# Altium footprint library IC_Power.PcbLib: 13 footprints
Each footprint in its own frame and in the unit in brackets; x right, y up, seen from the top. Pads: shape width x height; smd on the part's side, far side on the other; paste and mask are expansions set on the pad; w line width, h text height; cw(c..) or ccw(c..) is an arc to the next point about the centre after c.
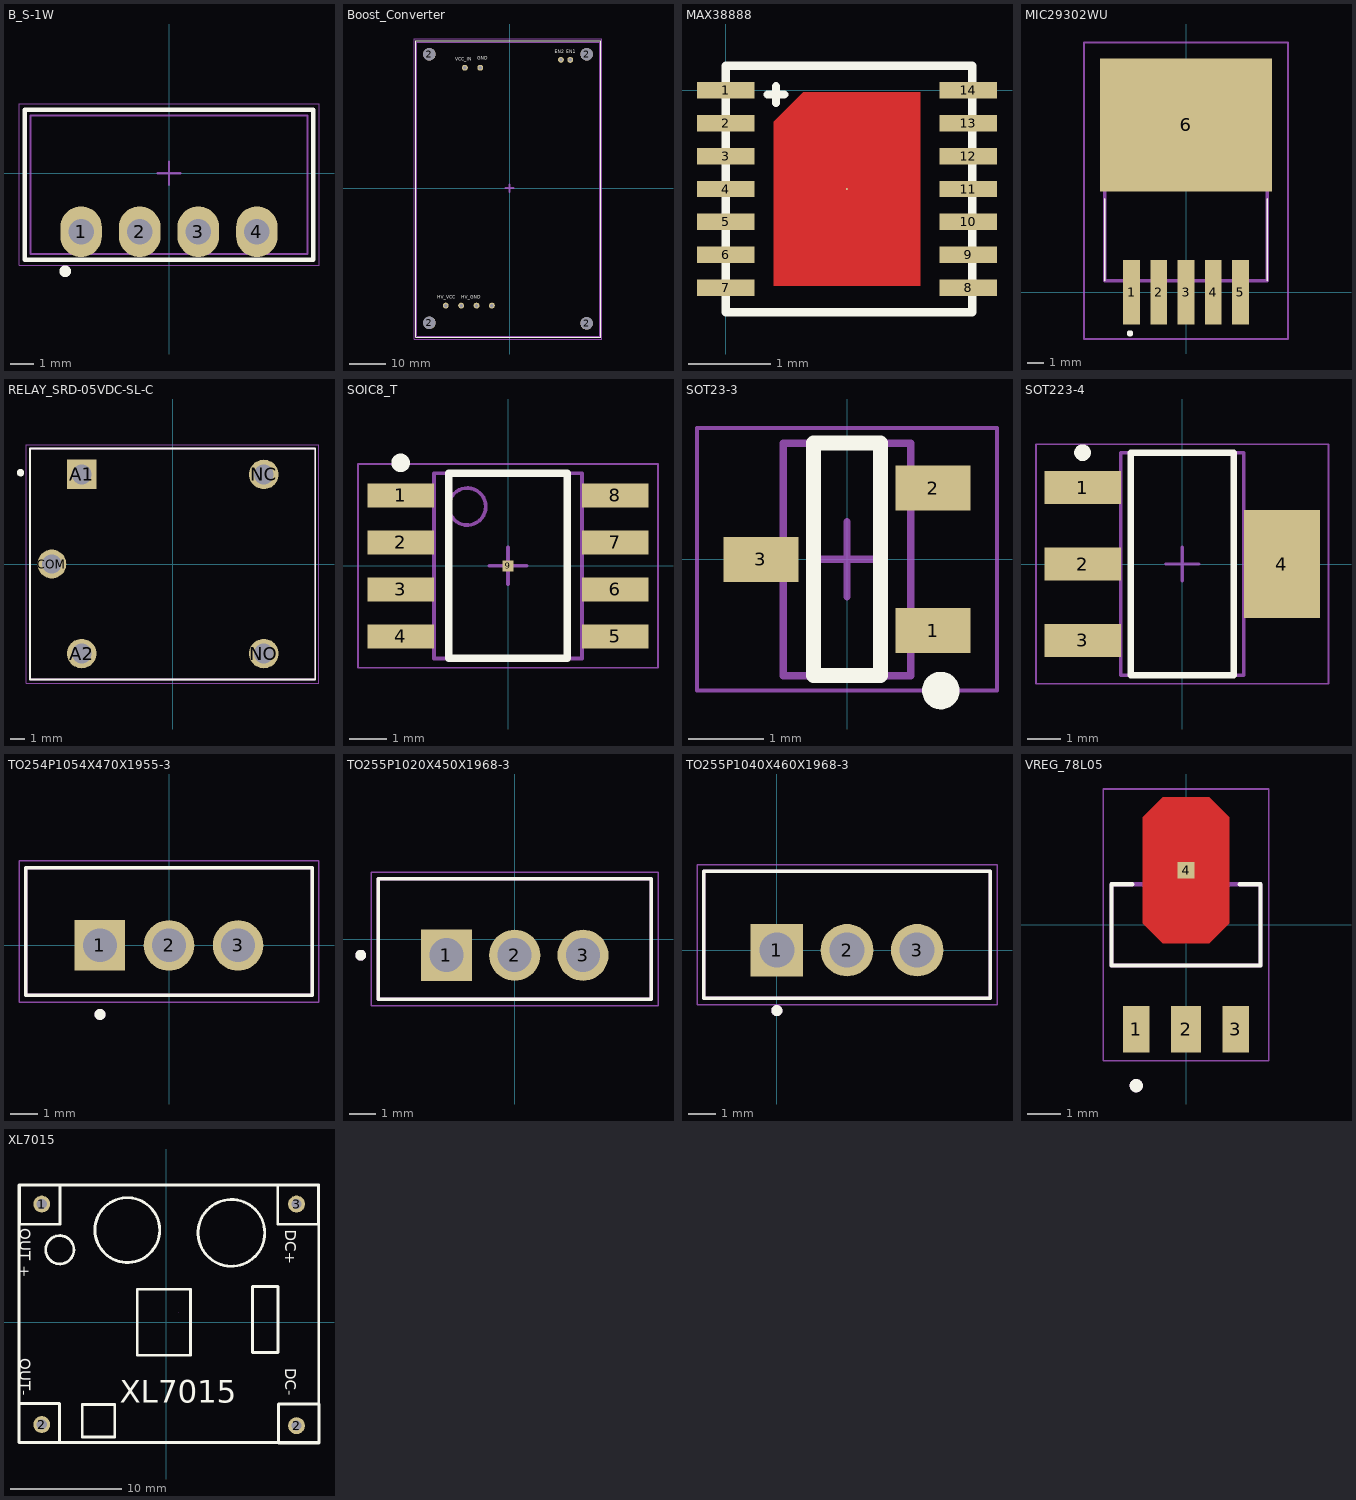
[diagram p0: the footprints below, top view; thin cyan lines are the x and y axes]

## B_S-1W [mm] "SOT23, 6-Leads, Body 2.90x2.80mm, Pitch 0.95mm, IPC Medium Density"
height 1.25
pads (4):
  oval 1.8x2.2 hole 1.1: 1(-3.81,-2.54) 2(-1.27,-2.54) 3(1.27,-2.54) 4(3.81,-2.54)
Top Overlay:
  circle w0.25: c-4.5,-4.25 r0.125
  lines w0.2: -6.25,-3.75 -6.25,2.75 6.25,2.75 6.25,-3.75 -6.25,-3.75
Mechanical 13:
  lines w0.1: -6,-3.5 6,-3.5 6,2.5 -6,2.5 -6,-3.5
Mechanical 15:
  lines w0.05: -6.5,-4 6.5,-4 6.5,3 -6.5,3 -6.5,-4
  lines w0.1: -0.5,0 0.5,0 ; 0,-0.5 0,0.5
3D body: height 10.16, standoff 0.2, extent -6,-3.5 6,2.5

## Boost_Converter [mm]
pads (12):
  round 1.6 hole 0.9: 1(-12.192,32.766) 2(-13.199,-32.004) 2(-8.999,-32.004) 2(-7.992,32.766) 3(16.51,34.925) 4(13.97,34.925) 5(-17.399,-32.004) 6(-4.826,-32.004)
  round 3.4 hole 3.4: 2(-21.844,-36.703) 2(-21.844,36.449) 2(20.955,-36.83) 2(20.955,36.449)
Top Overlay:
  lines w0.254: -25.625,-40.575 24.825,-40.575 24.825,40.125 -25.625,40.125 -25.625,-40.575
  text "VCC_IN" at -14.859,34.29 h1.52
  text "GND" at -8.763,34.544 h1.52
  text "EN1" at 15.494,36.322 h1.52
  text "EN2" at 12.319,36.322 h1.52
  text "HV_VCC" at -19.685,-30.48 h1.52
  text "HV_GND" at -13.208,-30.48 h1.52
Mechanical 13:
  lines w0.1: -25.273,-40.386 -25.273,39.714 24.527,39.714 24.527,-40.386 -25.273,-40.386
Mechanical 15:
  lines w0.254: -26,-41.1 25.125,-41.1 25.125,40.6 -26,40.6 -26,-41.1
  lines w0.5: -1.143,0 1.057,0 ; 0,-1.143 0,1.057
3D body: height 0.25, standoff 0, extent -25.273,-40.386 24.384,39.624

## MAX38888 [mm] "TDFN-EP Package 14 pins"
pads (15):
  rect 0.7x0.2 smd mask+0.05: 1(0,0) 2(0,-0.4) 3(0,-0.8) 4(0,-1.2) 5(0,-1.6) 6(0,-2) 7(0,-2.4) 8(2.95,-2.4) 9(2.95,-2) 10(2.95,-1.6) 11(2.95,-1.2) 12(2.95,-0.8) 13(2.95,-0.4) 14(2.95,0)
  round 0.025 smd: 15(1.473,-1.2)
Top Layer:
  region: 0.94,-0.025 0.583,-0.382 0.583,-2.375 2.363,-2.375 2.363,-0.025
Top Overlay:
  lines w0.1: 0.508,-0.051 0.711,-0.051 ; 0.61,-0.152 0.61,0.051 ; 0,-2.7 0,0.3 3,0.3 3,-2.7 0,-2.7
3D body: height 0.25, standoff 0, extent 0,-2.7 3,0.3

## MIC29302WU [mm]
pads (6):
  rect 1.041x4.039 smd: 1(-3.404,0) 2(-1.702,0) 3(0,0) 4(1.702,0) 5(3.404,0)
  rect 10.744x8.306 smd: 6(0,10.452)
Top Overlay:
  lines w0.1: -5.08,0.717 -5.08,5.826 ; 5.08,0.726 5.08,5.826
  lines w0.2: -3.6,-2.574 ccw(c-3.5,-2.574) -3.4,-2.574 ccw(c-3.5,-2.574) -3.6,-2.574
Mechanical 13:
  lines w0.1: -6.372,-2.921 6.372,-2.921 6.372,15.605 -6.372,15.605 -6.372,-2.921
  lines w0.2: -5.08,0.717 5.08,0.717 5.08,9.735 -5.08,9.735 -5.08,0.717
3D body "step_temp.STEP": height 10.72, standoff -4.19, extent -5.207,-2.286 4.953,2.794

## RELAY_SRD-05VDC-SL-C [mm]
pads (5):
  rect 1.98x1.98 / inner round 1.98 / far side rect 1.98x1.98 hole 1.32: A1(-6.1,6)
  round 1.98 hole 1.32: A2(-6.1,-6) NC(6.1,6) NO(6.1,-6)
  round 1.935 hole 1.29: COM(-8.1,0)
Top Overlay:
  circle w0.3: c-10.2,6.119 r0.1
  lines w0.127: -9.55,-7.75 -9.55,7.75 9.55,7.75 9.55,-7.75 -9.55,-7.75
Mechanical 13:
  lines w0.127: -9.55,-7.75 -9.55,7.75 9.55,7.75 9.55,-7.75 -9.55,-7.75
Mechanical 15:
  lines w0.05: -9.8,-8 -9.8,8 9.8,8 9.8,-8 -9.8,-8
3D body "step_temp.STEP": height 15.8, standoff -3, extent -9.6,-7.8 9.6,7.8

## SOIC8_T [mm] "SOIC, 8-Leads, Body 4.90x3.90mm, Pitch 1.27mm, Thermal Pad 3.10x2.40mm, IPC Medium Density"
height 1.8
pads (9):
  rect 1.8x0.65 smd: 1(-2.9,1.905) 2(-2.9,0.635) 3(-2.9,-0.635) 4(-2.9,-1.905) 5(2.9,-1.905) 6(2.9,-0.635) 7(2.9,0.635) 8(2.9,1.905)
  rect 0.3x0.3 smd: 9(0,0)
Top Overlay:
  circle w0.25: c-2.9,2.78 r0.125
  lines w0.2: -1.6,-2.5 -1.6,2.5 1.6,2.5 1.6,-2.5 -1.6,-2.5
Mechanical 13:
  circle w0.1: c-1.1,1.6 r0.5
  lines w0.1: -2,-2.5 -2,2.5 2,2.5 2,-2.5 -2,-2.5
Mechanical 15:
  lines w0.05: -4.05,-2.75 -4.05,2.75 4.05,2.75 4.05,-2.75 -4.05,-2.75
  lines w0.1: -0.5,0 0.5,0 ; 0,-0.5 0,0.5
3D body: height 1.8, standoff 0.1, extent -2,-2.5 2,2.5

## SOT23-3 [mm] "SOT23, 5-Leads, Body 2,95x2,45mm, Pitch 0,95mm, IPC Medium Density"
height 1.3
pads (3):
  rect 1x0.6 smd: 1(1.15,-0.95) 2(1.15,0.95) 3(-1.15,0)
Top Overlay:
  circle w0.25: c1.25,-1.75 r0.125
  lines w0.2: -0.45,-1.55 -0.45,1.55 0.45,1.55 0.45,-1.55 -0.45,-1.55
Mechanical 13:
  lines w0.1: -0.85,-1.55 0.85,-1.55 0.85,1.55 -0.85,1.55 -0.85,-1.55
Mechanical 15:
  lines w0.05: -2,-1.75 2,-1.75 2,1.75 -2,1.75 -2,-1.75
  lines w0.1: -0.5,0 0.5,0 ; 0,-0.5 0,0.5
3D body: height 1.3, standoff 0.05, extent -0.85,-1.55 0.85,1.55

## SOT223-4 [mm] "SOT223, 4-Leads, Body 6,50x7,00mm (avg), Pitch 2,30mm, IPC Medium Density"
height 1.8
pads (4):
  rect 2.3x1 smd: 1(-3,2.3) 2(-3,0) 3(-3,-2.3)
  rect 2.3x3.25 smd: 4(3,0)
Top Overlay:
  circle w0.25: c-3,3.35 r0.125
  lines w0.2: -1.55,-3.35 1.55,-3.35 1.55,3.35 -1.55,3.35 -1.55,-3.35
Mechanical 13:
  lines w0.1: -1.85,-3.35 1.85,-3.35 1.85,3.35 -1.85,3.35 -1.85,-3.35
Mechanical 15:
  lines w0.05: -4.4,-3.6 4.4,-3.6 4.4,3.6 -4.4,3.6 -4.4,-3.6
  lines w0.1: -0.5,0 0.5,0 ; 0,-0.5 0,0.5
3D body: height 1.8, standoff 0.02, extent -1.85,-3.35 1.85,3.35

## TO254P1054X470X1955-3 [mm]
pads (3):
  rect 1.86x1.86 / inner round 1.86 / far side rect 1.86x1.86 hole 1.24: 1(-2.54,0)
  round 1.86 hole 1.24: 2(0,0) 3(2.54,0)
Top Overlay:
  circle w0.2: c-2.54,-2.54 r0.1
  lines w0.127: -5.27,-1.84 5.27,-1.84 5.27,2.86 -5.27,2.86 -5.27,-1.84
Mechanical 13:
  circle w0.2: c-2.54,-2.54 r0.1
  lines w0.127: -5.27,-1.84 5.27,-1.84 5.27,2.86 -5.27,2.86 -5.27,-1.84
Mechanical 15:
  lines w0.05: -5.52,-2.09 5.52,-2.09 5.52,3.11 -5.52,3.11 -5.52,-2.09
3D body "step_temp.STEP": height 15.49, standoff -13.84, extent -5.08,-2.349 5.08,2.349

## TO255P1020X450X1968-3 [mm]
height 19.68
pads (3):
  rect 1.91x1.91 / inner round 1.91 / far side rect 1.91x1.91 hole 1.27: 1(-2.55,-0.605)
  round 1.91 hole 1.27: 2(0,-0.605) 3(2.55,-0.605)
Top Overlay:
  circle w0.2: c-5.75,-0.605 r0.1
  lines w0.127: -5.1,-2.25 5.1,-2.25 5.1,2.25 -5.1,2.25 -5.1,-2.25
Mechanical 13:
  circle w0.2: c-5.75,-0.605 r0.1
  lines w0.127: -5.1,-2.25 -5.1,2.25 5.1,2.25 5.1,-2.25 -5.1,-2.25
Mechanical 15:
  lines w0.05: -5.35,-2.5 -5.35,2.5 5.35,2.5 5.35,-2.5 -5.35,-2.5
3D body "step_temp.STEP": height 19.68, standoff -9.22, extent -5.1,-2.25 5.1,2.25

## TO255P1040X460X1968-3 [mm]
pads (3):
  rect 1.91x1.91 / inner round 1.91 / far side rect 1.91x1.91 hole 1.27: 1(0,0)
  round 1.91 hole 1.27: 2(2.55,0) 3(5.1,0)
Top Overlay:
  circle w0.2: c0,-2.195 r0.1
  lines w0.127: -2.65,-1.74 -2.65,2.86 7.75,2.86 7.75,-1.74 -2.65,-1.74
Mechanical 13:
  circle w0.2: c0,-2.195 r0.1
  lines w0.127: -2.65,-1.74 -2.65,2.86 7.75,2.86 7.75,-1.74 -2.65,-1.74
Mechanical 15:
  lines w0.05: -2.9,-1.99 -2.9,3.106 8,3.106 8,-1.99 -2.9,-1.99
3D body "step_temp.STEP": height 19.68, standoff -9.22, extent -2.65,-1.64 7.55,2.86

## VREG_78L05 [mm]
height 1.6
pads (4):
  rect 0.8x1.4 smd: 1(-1.5,-3.15) 3(1.5,-3.15)
  rect 0.9x1.4 smd: 2(0,-3.15)
  rect 0.5x0.5 smd paste-1 mask+0: 4(0,1.65)
Top Layer:
  region: 1.3,3.25 1.3,0.05 0.7,-0.55 -0.7,-0.55 -1.3,0.05 -1.3,3.25 -0.7,3.85 0.7,3.85
Top Overlay:
  circle w0.2: c-1.5,-4.85 r0.1
  lines w0.127: -1.62,1.225 -2.25,1.225 -2.25,-1.225 2.25,-1.225 2.25,1.225 1.62,1.225
Top Paste:
  region: 0.905,-0.155 0.195,-0.155 0.195,1.455 0.905,1.455
  region: -0.195,-0.155 -0.905,-0.155 -0.905,1.455 -0.195,1.455
  region: 0.905,1.845 0.195,1.845 0.195,3.455 0.905,3.455
  region: -0.195,1.845 -0.905,1.845 -0.905,3.455 -0.195,3.455
Top Solder:
  region: 1.4,3.3 1.4,0 0.75,-0.65 -0.75,-0.65 -1.4,0 -1.4,3.3 -0.75,3.95 0.75,3.95
Mechanical 13:
  circle w0.2: c-1.5,-4.85 r0.1
  lines w0.127: -2.25,-1.225 -2.25,1.225 2.25,1.225 2.25,-1.225 -2.25,-1.225
Mechanical 15:
  lines w0.05: -2.5,-4.1 2.5,-4.1 2.5,4.1 -2.5,4.1 -2.5,-4.1
3D body "step_temp.STEP": height 1.6, standoff 0, extent -2.047,-2.25 2.047,2.25

## XL7015 [mil]
pads (4):
  round 60 hole 36 paste-99999 mask+2: 1(-442.67,420.74) 2(-442.67,-362.72) 2(462.84,-366.66) 3(462.84,420.74)
Top Overlay:
  circle w10: c-138.54,328.34 r115.11
  circle w10: c231.46,318.34 r118.53
  circle w10: c-378.54,258.34 r50.25
  lines w10: -523.54,-426.66 541.46,-426.66 541.46,488.34 -523.54,488.34 -523.54,-426.66 ; -523.54,-426.66 -379.68,-426.66 -379.68,-287.92 -523.54,-287.92 -523.54,-426.66 ; -521.41,348.93 -377.55,348.93 -377.55,487.67 -521.41,487.67 -521.41,348.93 ; -298.54,-406.66 -183.54,-406.66 -183.54,-291.66 -298.54,-291.66 -298.54,-406.66 ; -103.54,-116.66 86.46,-116.66 86.46,118.34 -103.54,118.34 -103.54,-116.66 ; 306.46,-106.66 396.46,-106.66 396.46,128.34 306.46,128.34 306.46,-106.66 ; 395.91,348.93 539.77,348.93 539.77,487.67 395.91,487.67 395.91,348.93 ; 398.79,-428.15 542.65,-428.15 542.65,-289.41 398.79,-289.41 398.79,-428.15
  text "OUT +" at -521.41,334.13 h39.37
  text "OUT-" at -521.41,-126.5 h39.37
  text "DC+" at 423.47,330.19 h39.37
  text "DC-" at 423.47,-161.93 h39.37
  text "XL7015" at -165.54,-285.15 h80
Mechanical 15:
  lines w0.1: 42.04,35.09 42.06,35.11